# Altium footprint library EHK2V.PcbLib: 23 footprints (part 1 of 2)
Each footprint in its own frame and in the unit in brackets; x right, y up, seen from the top. Pads: shape width x height; smd on the part's side, far side on the other; paste and mask are expansions set on the pad; w line width, h text height; cw(c..) or ccw(c..) is an arc to the next point about the centre after c.
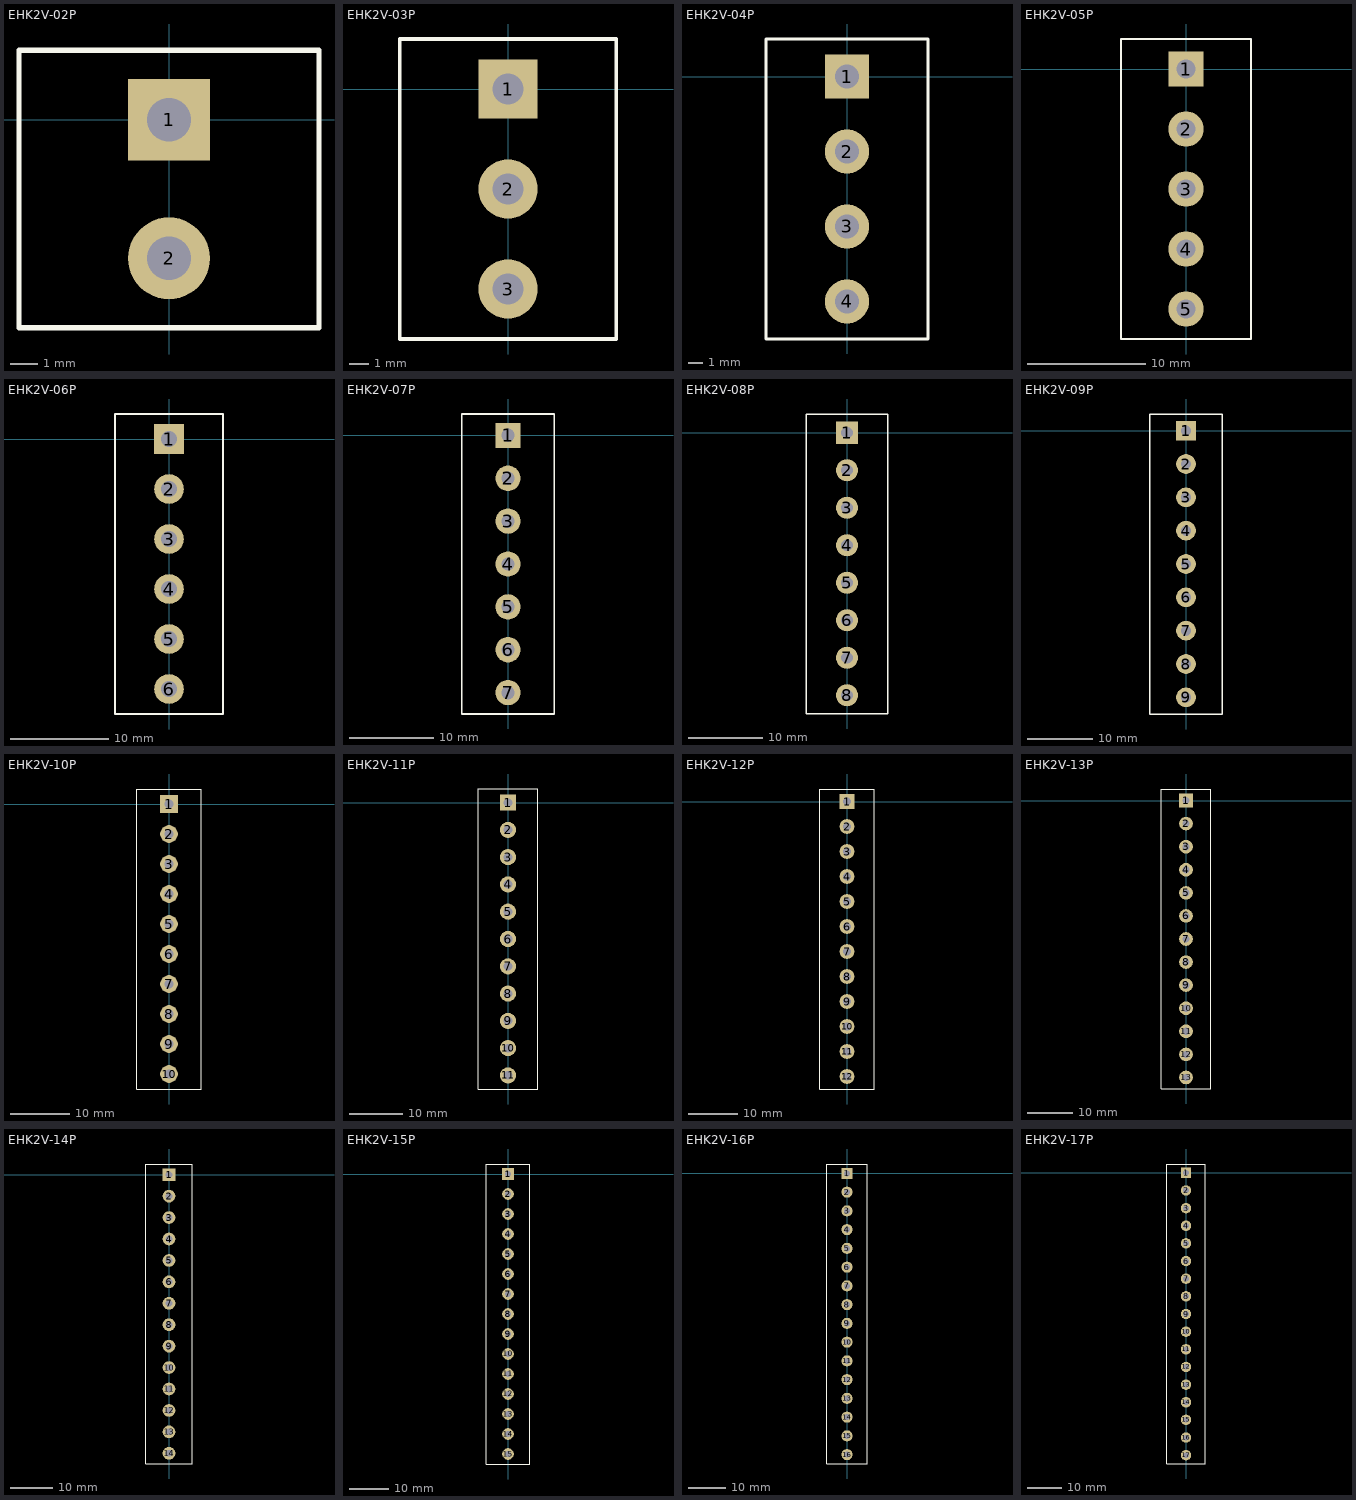
[diagram p0: the footprints below, top view; thin cyan lines are the x and y axes]

## EHK2V-02P [mm] "PCB Terminal Blocks"
pads (2):
  rect 3x3 hole 1.6: 1(0,0)
  round 3 hole 1.6: 2(0,-5.08)
Top Overlay:
  lines w0.2: -5.5,-7.62 -5.5,2.54 5.5,2.54 5.5,-7.62 -5.5,-7.62
3D body: height 18, standoff 0, extent -5.6,-7.72 5.6,2.64

## EHK2V-03P [mm] "PCB Terminal Blocks"
pads (3):
  rect 3x3 hole 1.6: 1(0,0)
  round 3 hole 1.6: 2(0,-5.08) 3(0,-10.16)
Top Overlay:
  lines w0.2: -5.5,-12.7 5.5,-12.7 5.5,2.54 -5.5,2.54 -5.5,-12.7
3D body: height 18, standoff 0, extent -5.6,-12.7 5.6,2.64

## EHK2V-04P [mm] "PCB Terminal Blocks"
pads (4):
  rect 3x3 hole 1.6: 1(0,0)
  round 3 hole 1.6: 2(0,-5.08) 3(0,-10.16) 4(0,-15.24)
Top Overlay:
  lines w0.2: -5.5,-17.78 -5.5,2.54 5.5,2.54 5.5,-17.78 -5.5,-17.78
3D body: height 18, standoff 0, extent -5.6,-17.78 5.6,2.54

## EHK2V-05P [mm] "PCB Terminal Blocks"
pads (5):
  rect 3x3 hole 1.6: 1(0,0)
  round 3 hole 1.6: 2(0,-5.08) 3(0,-10.16) 4(0,-15.24) 5(0,-20.32)
Top Overlay:
  lines w0.2: -5.5,-22.86 -5.5,2.54 5.5,2.54 5.5,-22.86 -5.5,-22.86
3D body: height 18, standoff 0, extent -5.6,-22.86 5.6,2.54

## EHK2V-06P [mm] "PCB Terminal Blocks"
pads (6):
  rect 3x3 hole 1.6: 1(0,0)
  round 3 hole 1.6: 2(0,-5.08) 3(0,-10.16) 4(0,-15.24) 5(0,-20.32) 6(0,-25.4)
Top Overlay:
  lines w0.2: -5.5,-27.94 -5.5,2.54 5.5,2.54 5.5,-27.94 -5.5,-27.94
3D body: height 18, standoff 0, extent -5.6,-27.94 5.6,2.54

## EHK2V-07P [mm] "PCB Terminal Blocks"
pads (7):
  rect 3x3 hole 1.6: 1(0,0)
  round 3 hole 1.6: 2(0,-5.08) 3(0,-10.16) 4(0,-15.24) 5(0,-20.32) 6(0,-25.4) 7(0,-30.48)
Top Overlay:
  lines w0.2: -5.5,-33.02 5.5,-33.02 5.5,2.54 -5.5,2.54 -5.5,-33.02
3D body: height 18, standoff 0, extent -5.6,-33.02 5.6,2.54

## EHK2V-08P [mm] "PCB Terminal Blocks"
pads (8):
  rect 3x3 hole 1.6: 1(0,0)
  round 3 hole 1.6: 2(0,-5.08) 3(0,-10.16) 4(0,-15.24) 5(0,-20.32) 6(0,-25.4) 7(0,-30.48) 8(0,-35.56)
Top Overlay:
  lines w0.2: -5.5,-38.1 -5.5,2.54 5.5,2.54 5.5,-38.1 -5.5,-38.1
3D body: height 18, standoff 0, extent -5.6,-38.1 5.6,2.54

## EHK2V-09P [mm] "PCB Terminal Blocks"
pads (9):
  rect 3x3 hole 1.6: 1(0,0)
  round 3 hole 1.6: 2(0,-5.08) 3(0,-10.16) 4(0,-15.24) 5(0,-20.32) 6(0,-25.4) 7(0,-30.48) 8(0,-35.56)
  round 3 hole 1.6 paste+0: 9(0,-40.64)
Top Overlay:
  lines w0.2: -5.5,-43.18 5.5,-43.18 5.5,2.54 -5.5,2.54 -5.5,-43.18
3D body: height 18, standoff 0, extent -5.6,-43.18 5.6,2.54

## EHK2V-10P [mm] "PCB Terminal Blocks"
pads (10):
  rect 3x3 hole 1.6: 1(0,0)
  round 3 hole 1.6: 2(0,-5.08) 3(0,-10.16) 4(0,-15.24) 5(0,-20.32) 6(0,-25.4) 7(0,-30.48) 8(0,-35.56)
  round 3 hole 1.6 paste+0: 9(0,-40.64) 10(0,-45.72)
Top Overlay:
  lines w0.2: -5.5,-48.26 -5.5,2.54 5.5,2.54 5.5,-48.26 -5.5,-48.26
3D body: height 18, standoff 0, extent -5.6,-48.26 5.6,2.54

## EHK2V-11P [mm] "PCB Terminal Blocks"
pads (11):
  rect 3x3 hole 1.6: 1(0,0)
  round 3 hole 1.6: 2(0,-5.08) 3(0,-10.16) 4(0,-15.24) 5(0,-20.32) 6(0,-25.4) 7(0,-30.48) 8(0,-35.56)
  round 3 hole 1.6 paste+0: 9(0,-40.64) 10(0,-45.72) 11(0,-50.8)
Top Overlay:
  lines w0.2: -5.5,-53.34 -5.5,2.54 5.5,2.54 5.5,-53.34 -5.5,-53.34
3D body: height 18, standoff 0, extent -5.6,-53.34 5.6,2.54

## EHK2V-12P [mm] "PCB Terminal Blocks"
pads (12):
  rect 3x3 hole 1.6: 1(0,0)
  round 3 hole 1.6: 2(0,-5.08) 3(0,-10.16) 4(0,-15.24) 5(0,-20.32) 6(0,-25.4) 7(0,-30.48) 8(0,-35.56) 12(0,-55.88)
  round 3 hole 1.6 paste+0: 9(0,-40.64) 10(0,-45.72) 11(0,-50.8)
Top Overlay:
  lines w0.2: -5.5,-58.42 -5.5,2.54 5.5,2.54 5.5,-58.42 -5.5,-58.42
3D body: height 18, standoff 0, extent -5.6,-58.42 5.6,2.54

## EHK2V-13P [mm] "PCB Terminal Blocks"
pads (13):
  rect 3x3 hole 1.6: 1(0,0)
  round 3 hole 1.6: 2(0,-5.08) 3(0,-10.16) 4(0,-15.24) 5(0,-20.32) 6(0,-25.4) 7(0,-30.48) 8(0,-35.56) 12(0,-55.88)
  round 3 hole 1.6 paste+0: 9(0,-40.64) 10(0,-45.72) 11(0,-50.8) 13(0,-60.96)
Top Overlay:
  lines w0.2: -5.5,-63.5 -5.5,2.54 5.5,2.54 5.5,-63.5 -5.5,-63.5
3D body: height 18, standoff 0, extent -5.6,-63.5 5.6,2.54

## EHK2V-14P [mm] "PCB Terminal Blocks"
pads (14):
  rect 3x3 hole 1.6: 1(0,0)
  round 3 hole 1.6: 2(0,-5.08) 3(0,-10.16) 4(0,-15.24) 5(0,-20.32) 6(0,-25.4) 7(0,-30.48) 8(0,-35.56) 12(0,-55.88) 14(0,-66.04)
  round 3 hole 1.6 paste+0: 9(0,-40.64) 10(0,-45.72) 11(0,-50.8) 13(0,-60.96)
Top Overlay:
  lines w0.2: -5.5,-68.58 -5.5,2.54 5.5,2.54 5.5,-68.58 -5.5,-68.58
3D body: height 18, standoff 0, extent -5.6,-68.58 5.6,2.54

## EHK2V-15P [mm] "PCB Terminal Blocks"
pads (15):
  rect 3x3 hole 1.6: 1(0,0)
  round 3 hole 1.6: 2(0,-5.08) 3(0,-10.16) 4(0,-15.24) 5(0,-20.32) 6(0,-25.4) 7(0,-30.48) 8(0,-35.56) 12(0,-55.88) 14(0,-66.04)
  round 3 hole 1.6 paste+0: 9(0,-40.64) 10(0,-45.72) 11(0,-50.8) 13(0,-60.96) 15(0,-71.12)
Top Overlay:
  lines w0.2: -5.5,-73.66 -5.5,2.54 5.5,2.54 5.5,-73.66 -5.5,-73.66
3D body: height 18, standoff 0, extent -5.6,-73.66 5.6,2.54

## EHK2V-16P [mm] "PCB Terminal Blocks"
pads (16):
  rect 3x3 hole 1.6: 1(0,0)
  round 3 hole 1.6: 2(0,-5.08) 3(0,-10.16) 4(0,-15.24) 5(0,-20.32) 6(0,-25.4) 7(0,-30.48) 8(0,-35.56) 12(0,-55.88) 14(0,-66.04) 16(0,-76.2)
  round 3 hole 1.6 paste+0: 9(0,-40.64) 10(0,-45.72) 11(0,-50.8) 13(0,-60.96) 15(0,-71.12)
Top Overlay:
  lines w0.2: -5.5,-78.74 5.5,-78.74 5.5,2.54 -5.5,2.54 -5.5,-78.74
3D body: height 18, standoff 0, extent -5.6,-78.74 5.6,2.54

## EHK2V-17P [mm] "PCB Terminal Blocks"
pads (17):
  rect 3x3 hole 1.6: 1(0,0)
  round 3 hole 1.6: 2(0,-5.08) 3(0,-10.16) 4(0,-15.24) 5(0,-20.32) 6(0,-25.4) 7(0,-30.48) 8(0,-35.56) 12(0,-55.88) 14(0,-66.04) 16(0,-76.2)
  round 3 hole 1.6 paste+0: 9(0,-40.64) 10(0,-45.72) 11(0,-50.8) 13(0,-60.96) 15(0,-71.12) 17(0,-81.28)
Top Overlay:
  lines w0.2: -5.5,-83.82 5.5,-83.82 5.5,2.54 -5.5,2.54 -5.5,-83.82
3D body: height 18, standoff 0, extent -5.6,-83.82 5.6,2.54